# Altium footprint library libreriaPcb.PcbLib: 683 footprints (part 40 of 44)
Each footprint in its own frame and in the unit in brackets; x right, y up, seen from the top. Pads: shape width x height; smd on the part's side, far side on the other; paste and mask are expansions set on the pad; w line width, h text height; cw(c..) or ccw(c..) is an arc to the next point about the centre after c.
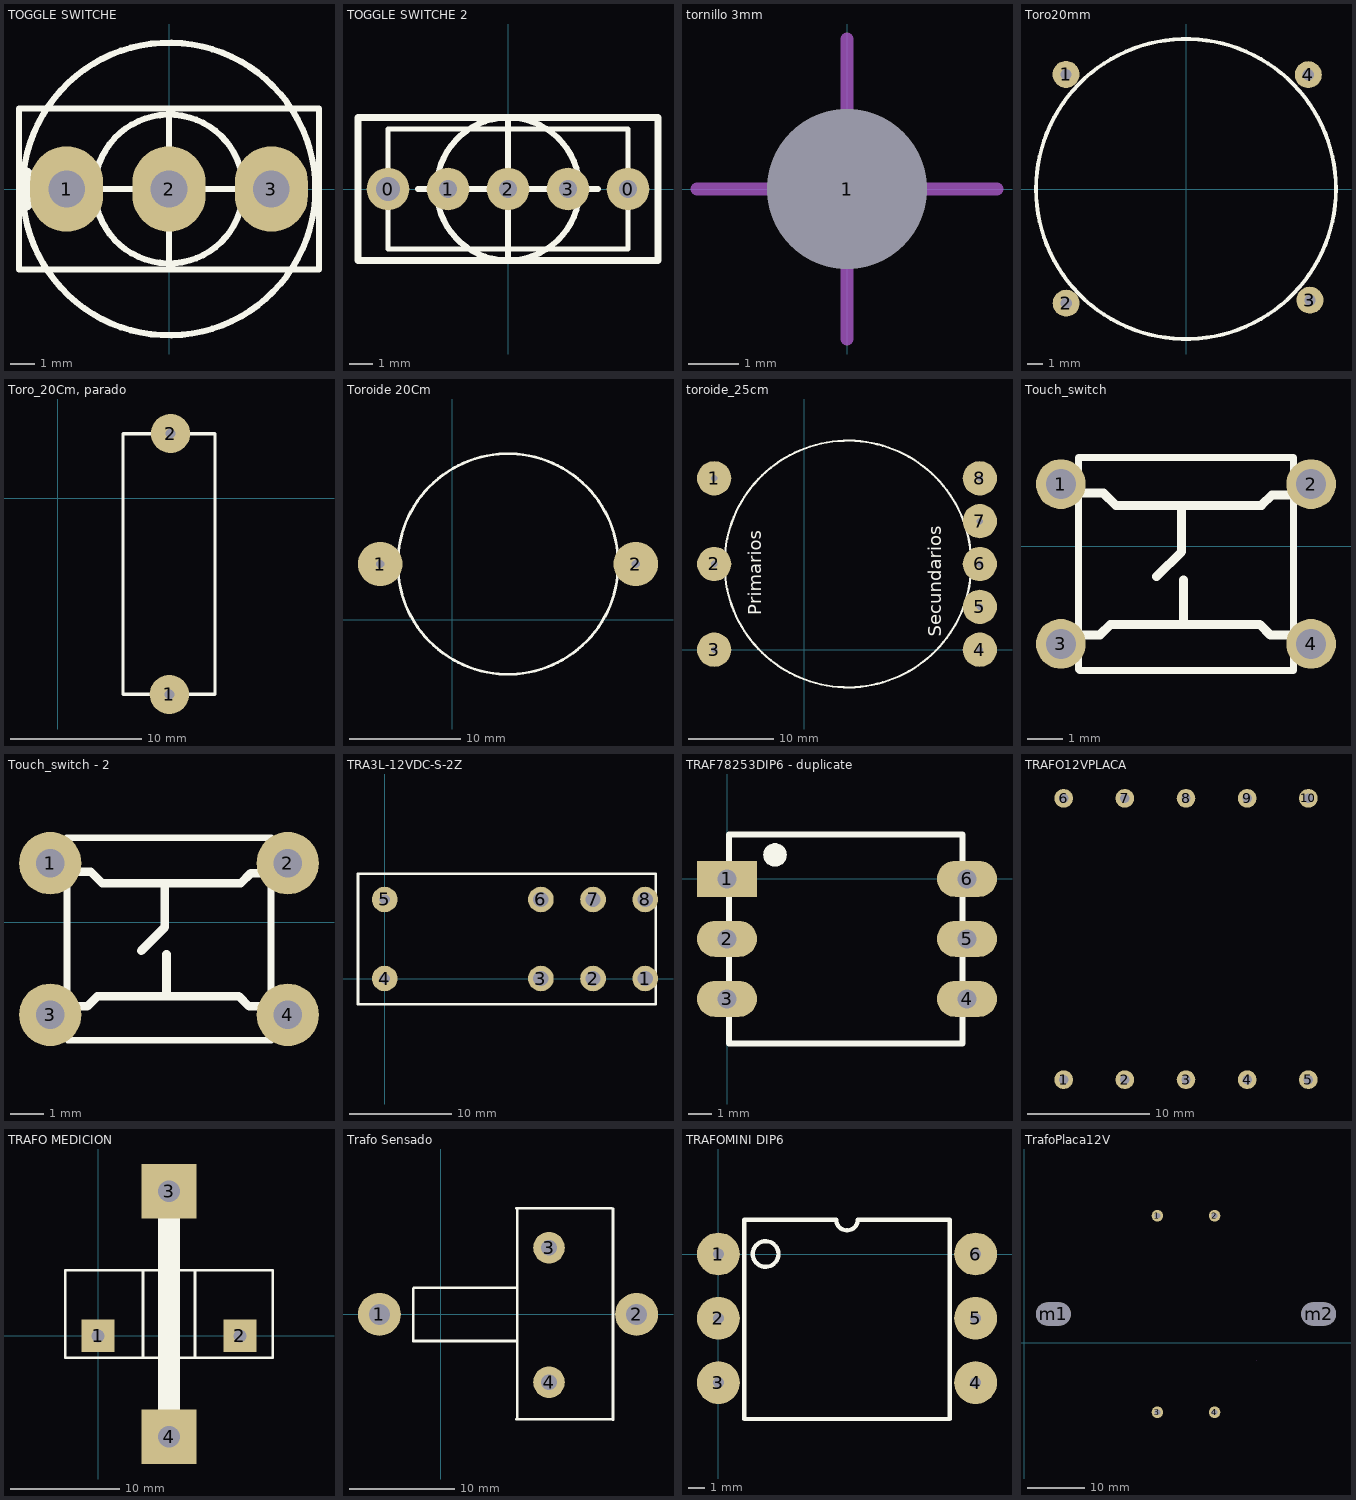
[diagram p39: the footprints below, top view; thin cyan lines are the x and y axes]

## TOGGLE SWITCHE [mm] "Llave palanca para PCB"
pads (3):
  oval 3x3.5 hole 1.5: 1(-4.2,0) 2(0,0) 3(4.2,0)
Top Overlay:
  circle w0.254: c0,0 r6
  circle w0.254: c0,0 r3.05
  lines w0.254: -3.81,0 3.81,0 ; 0,-3.302 0,3.298 ; -6.15,-3.302 6.15,-3.302 6.15,3.298 -6.15,3.298 -6.15,-3.302
  lines w0.5: -5.842,-0.635 -5.842,0 -5.842,0.635

## TOGGLE SWITCHE 2 [mm] "Llave palanca para PCB, Mini"
pads (5):
  round 1.8 hole 1: 0(-5.08,0)
  round 1.8 hole 0.762: 0(5.08,0) 1(-2.54,0) 2(0,0) 3(2.54,0)
Top Overlay:
  circle w0.254: c0,0 r3.025
  lines w0.2: -5.08,-2.54 -5.08,2.54 5.08,2.54 5.08,-2.54 -5.08,-2.54
  lines w0.254: -3.81,0 3.81,0 ; 0,-3.025 0,3.025
  lines w0.3: -6.35,-3.025 6.35,-3.025 6.35,3.025 -6.35,3.025 -6.35,-3.025

## tornillo 3mm [mil]
pads (1):
  round 60 hole 125.98: 1(0,0)
Mechanical 1:
  lines w10: -118.11,0 0,0 ; 0,-118.11 0,0 ; 0,118.11 0,0 ; 118.11,0 0,0

## Toro20mm [mm] "Toro DE 20mm"
pads (4):
  round 1.8 hole 0.75: 1(-8,7.64) 2(-7.99,-7.61) 3(8.26,-7.41) 4(8.15,7.62)
Top Overlay:
  circle w0.254: c-0.001,0 r10

## Toro_20Cm, parado [mm]
pads (2):
  round 3 hole 0.762: 1(8.55,-15) 2(8.65,4.95)
Top Overlay:
  lines w0.254: 5,-15 12.05,-15 12.05,-4.95 12.05,4.95 5,4.95 5,-15

## Toroide 20Cm [mm]
pads (2):
  round 4 hole 0.762: 1(-6.5,5) 2(16.5,5)
Top Overlay:
  circle w0.254: c5,5 r9.925
3D body: height 8, standoff 0, extent -4.924,-4.924 14.924,14.924

## toroide_25cm [mm]
pads (8):
  round 4 hole 0.762: 1(-10.5,20) 2(-10.5,10) 3(-10.5,0) 4(20.5,0) 5(20.5,5) 6(20.5,10) 7(20.5,15) 8(20.5,20)
Top Overlay:
  circle w0.254: c5.107,10 r14.393
  text "Secundarios" at 16,1.5 h1.52
  text "Primarios" at -5,4 h1.52

## Touch_switch [mm]
pads (4):
  round 1.4 hole 0.85: 1(3.25,1.75) 2(10.3,1.75) 3(3.25,-2.75) 4(10.3,-2.75)
Top Overlay:
  lines w0.2: 3.75,-3.475 3.75,2.5 9.8,2.5 9.8,-3.5 3.775,-3.5
  lines w0.254: 3.75,-2.5 4.35,-2.5 4.65,-2.2 8.85,-2.2 9.15,-2.5 9.8,-2.5 ; 3.75,1.5 4.45,1.5 4.8,1.15 8.9,1.15 9.2,1.45 9.8,1.45 ; 5.95,-0.85 6.65,-0.15 6.65,1.15 ; 6.7,-2.2 6.7,-0.95
3D body: height 2, standoff 0, extent 3.78,-3.52 9.79,2.49
3D body: height 2.35, standoff 2.1, extent 5.192,-1.997 8.18,0.997
3D body: height 2.1, standoff 2, extent 3.78,-3.52 9.79,2.49
3D body: height 2.2, standoff 2.1, extent 4.004,1.301 5,2.299
3D body: height 2.2, standoff 2.1, extent 8.554,1.271 9.55,2.269
3D body: height 2.2, standoff 2.1, extent 8.604,-3.259 9.6,-2.261
3D body: height 2.2, standoff 2.1, extent 4.054,-3.229 5.05,-2.231

## Touch_switch - 2 [mm]
pads (4):
  round 1.85 hole 0.85: 1(3.25,1.75) 2(10.3,1.75) 3(3.25,-2.75) 4(10.3,-2.75)
Top Overlay:
  lines w0.2: 3.75,-3.475 3.75,2.5 9.8,2.5 9.8,-3.5 3.775,-3.5
  lines w0.254: 3.75,-2.5 4.35,-2.5 4.65,-2.2 8.85,-2.2 9.15,-2.5 9.8,-2.5 ; 3.75,1.5 4.45,1.5 4.8,1.15 8.9,1.15 9.2,1.45 9.8,1.45 ; 5.95,-0.85 6.65,-0.15 6.65,1.15 ; 6.7,-2.2 6.7,-0.95
3D body: height 2, standoff 0, extent 3.78,-3.52 9.79,2.49
3D body: height 2.35, standoff 2.1, extent 5.192,-1.997 8.18,0.997
3D body: height 2.1, standoff 2, extent 3.78,-3.52 9.79,2.49
3D body: height 2.2, standoff 2.1, extent 4.004,1.301 5,2.299
3D body: height 2.2, standoff 2.1, extent 8.554,1.271 9.55,2.269
3D body: height 2.2, standoff 2.1, extent 8.604,-3.259 9.6,-2.261
3D body: height 2.2, standoff 2.1, extent 4.054,-3.229 5.05,-2.231

## TRA3L-12VDC-S-2Z [mm]
pads (8):
  round 2.5 hole 1.5: 1(25.38,0) 2(20.3,0) 3(15.22,0) 6(15.22,7.7) 7(20.3,7.7) 8(25.38,7.7)
  round 2.5 hole 1: 4(0,0) 5(0,7.7)
Top Overlay:
  lines w0.254: -2.6,-2.5 26.4,-2.5 26.4,10.2 -2.6,10.2 -2.6,-2.5

## TRAF78253DIP6 - duplicate [mm]
pads (7):
  rect 2.54x1.524 hole 0.8: 1(0,0)
  oval 2.54x1.524 hole 0.8: 2(0,-2.54) 3(0,-5.08) 4(10.16,-5.08) 5(10.16,-2.54) 6(10.16,0)
  round 1 on Top Overlay: ""(2.032,1.016)
Top Overlay:
  lines w0.254: 0.08,-6.966 9.96,-6.966 9.96,1.874 0.08,1.874 0.08,-6.966

## TRAFO12VPLACA [mil] "Transformador 12V sobre Placa"
height 1181.1
pads (10):
  round 60 hole 30: 1(295.28,118.11) 2(492.13,118.11) 3(688.98,118.11) 4(885.83,118.11) 5(1082.68,118.11) 6(295.28,1023.62) 7(492.13,1023.62) 8(688.98,1023.62) 9(885.83,1023.62) 10(1082.68,1023.62)
3D body: height 826.77, standoff 314.96, extent 0,0 1377.95,1141.73
3D body: height 157.48, standoff 0, extent 196.85,39.37 1181.1,236.22
3D body: height 157.48, standoff 0, extent 196.85,905.51 1181.1,1102.36
3D body: height 1141.73, standoff 0, extent 196.85,905.51 1181.1,944.88
3D body: height 1141.73, standoff 0, extent 196.85,196.85 1181.1,236.22
3D body: height 1102.36, standoff 0, extent 255.91,236.22 1122.05,905.51

## TRAFO MEDICION [mm] "0 a 10A"
pads (4):
  rect 3x3 hole 1.2: 1(0,0) 2(13.004,0)
  rect 5x5 hole 2: 3(6.502,13.24) 4(6.502,-9.24)
Top Overlay:
  lines w0.254: 4.114,-2 4.114,6 ; 8.89,-2 8.89,6 ; -2.998,-2 -2.998,6 16.002,6 16.002,-2 -2.998,-2
  lines w2: 6.502,-9.24 6.502,13.24

## Trafo Sensado [mm]
height 12.93
pads (4):
  round 4.064 hole 2: 1(-5.825,0) 2(18.55,0)
  round 3 hole 1.5: 3(10.25,6.325) 4(10.25,-6.425)
Top Overlay:
  lines w0.254: 7.175,-9.95 16.175,-9.95 ; 7.175,10.075 16.175,10.075 ; 7.243,-9.95 7.243,10.05 ; 7.243,-2.525 -2.625,-2.525 -2.625,2.425 -2.525,2.525 7.243,2.525 ; 16.318,-10 16.318,10
3D body: height 19.92, standoff 0, extent 8.2,-9.95 16.2,10.011
3D body: height 4, standoff 0.2, extent 7.244,-9.95 16.176,10.05
3D body: height 0.2, standoff -1, extent 9.853,-6.824 10.65,-6.026
3D body: height 12, standoff 0, extent 16.566,-1.996 20.55,1.996
3D body: height 12, standoff 0, extent -7.809,-1.996 -3.825,1.996
3D body: height 0.2, standoff -1, extent 9.853,5.926 10.65,6.724
3D body: height 11.98, standoff 8, extent -6.225,-2 18.775,1.992
3D body: height 17.94, standoff 2, extent 8.625,-8.073 15.625,7.895

## TRAFOMINI DIP6 [mm]
pads (6):
  round 2.54 hole 0.635: 1(0,0) 2(0,-3.81) 3(0,-7.62) 4(15.24,-7.62) 5(15.24,-3.81) 6(15.24,0)
Top Overlay:
  circle w0.254: c2.794,0 r0.762
  lines w0.254: 1.524,-9.779 1.524,2.032 6.985,2.032 ccw(c7.62,2.032) 8.255,2.032 13.716,2.032 13.716,-9.779 1.524,-9.779

## TrafoPlaca12V [mm] "Transformador 12V para Placa"
pads (6):
  round 2 hole 1: 1(23,22) 2(32.9,22) 3(23,-12) 4(32.9,-12)
  rrect100% 6x4 hole 4 slot 6 at 0 deg: m1(5,5) m2(50.9,5)
Mechanical 1:
  lines w0.254: 40.1,-3 40.1,-3
3D body: height 26, standoff 6, extent 16,-12 40.1,22
3D body: height 30, standoff 0, extent 10,-3 46,13
3D body: height 0.3, standoff 0, extent 0,-0.109 55.7,10